# EAGLE library part DECADE-UCS2912-DIP (library DECADE-libraries)
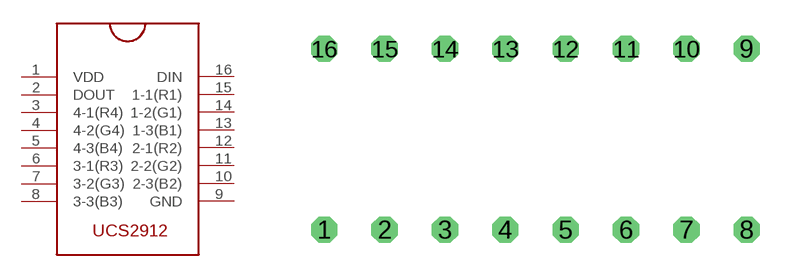
[diagram p10: symbol with the pads of DECADE-UCS2912; footprint DECADE-UCS2912]

Designator prefix -

## DECADE-UCS2912-DIP  [DECADE-UCS2912]
1  VDD
2  DOUT
3  4-1(R4)
4  4-2(G4)
5  4-3(B4)
6  3-1(R3)
7  3-2(G3)
8  3-3(B3)
9  GND
10  2-3(B2)
11  2-2(G2)
12  2-1(R2)
13  1-3(B1)
14  1-2(G1)
15  1-1(R1)
16  DIN

## Footprint DECADE-UCS2912 (pad centres in mm)
drill 0.6 octagon: 1 0,0; 2 2.54,0; 3 5.08,0; 4 7.62,0; 5 10.16,0; 6 12.7,0; 7 15.24,0; 8 17.78,0; 9 17.78,7.62; 10 15.24,7.62; 11 12.7,7.62; 12 10.16,7.62; 13 7.62,7.62; 14 5.08,7.62; 15 2.54,7.62; 16 0,7.62